# Altium schematic symbol library BLUETOOTH-SERIAL-HC-06.SchLib: 1 symbol
Pins are listed as number, name and electrical type; pins without a type are passive.

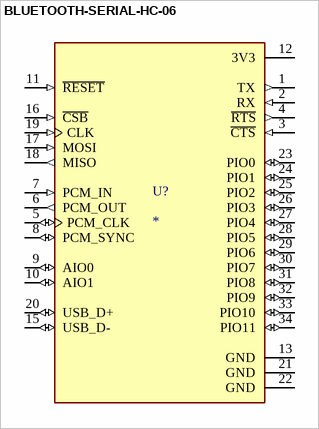
[diagram p0: symbol BLUETOOTH-SERIAL-HC-06]

## BLUETOOTH-SERIAL-HC-06
designator U?
Bluetooth Modules (802.15.1) BLUETOOTH-SERIAL-HC-06; MF: Olimex; Value: *; SnapEDA_Link: https://www.snapeda.com/parts/BLUETOOTH-SERIAL-HC-06/Olimex/view-part/?ref=snap; MP: BLUETOOTH-SERIAL-HC-06; Check_prices: https://www.snapeda.com/parts/BLUETOOTH-SERIAL-HC-06/Olimex/view-part/?ref=eda; Availability: Not in stock; Price: None; Package: None
footprint XCVR_BLUETOOTH-SERIAL-HC-06
pins: 1 TX (out), 2 RX (in), 3 ~{CTS} (in), 4 ~{RTS} (out), 5 PCM_CLK (io), 6 PCM_OUT (out), 7 PCM_IN (in), 8 PCM_SYNC (io), 9 AIO0 (io), 10 AIO1 (io), 11 ~{RESET} (in), 12 3V3 (power), 13 GND (power), 15 USB_D- (io), 16 ~{CSB} (in), 17 MOSI (in), 18 MISO (out), 19 CLK (in), 20 USB_D+ (io), 21 GND (power), 22 GND (power), 23 PIO0 (io), 24 PIO1 (io), 25 PIO2 (io), 26 PIO3 (io), 27 PIO4 (io), 28 PIO5 (io), 29 PIO6 (io), 30 PIO7 (io), 31 PIO8 (io), 32 PIO9 (io), 33 PIO10 (io), 34 PIO11 (io)